# Altium schematic symbol library Capacitors.SCHLIB: 2 symbols
Pins are listed as number, name and electrical type; pins without a type are passive.

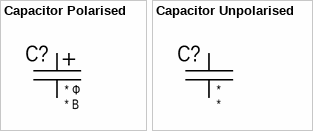
[diagram p0: symbols Capacitor Polarised to Capacitor Unpolarised]

## Capacitor Polarised
designator C?  Voltage_SPEC: * В  Value_SPEC: * Ф
Generic Polarised Capacitor; Tolerance: ±*; Package: *; Series: TECAP
pins: 1, 2
1 alternate drawing of the same symbol

## Capacitor Unpolarised
designator C?, comment * * *±* *  (value not drawn)
Generic Unpolarised Capacitor; Tolerance: ±*; Dielectric: *; Package: *; Voltage: *; Value: *
pins: 1, 2
1 alternate drawing of the same symbol